# Altium schematic symbol library KongTiaoT.SchLib: 6 symbols
Pins are listed as number, name and electrical type; pins without a type are passive.

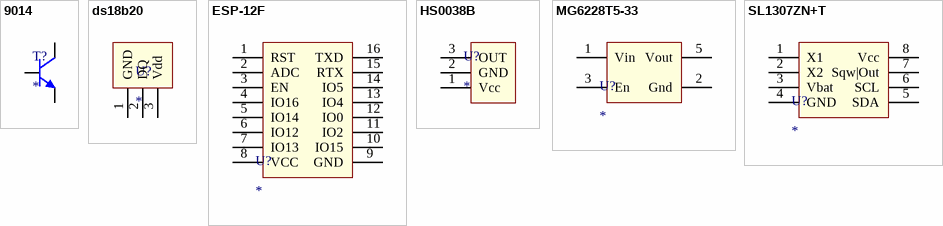
[diagram p0: symbols 9014 to SL1307ZN+T]

## 9014
designator T?
footprint TO-92
pins: 1 E, 2 B, 3 C

## ds18b20
designator U?
footprint TO-92
pins: 1 GND, 2 DQ, 3 Vdd

## ESP-12F
designator U?
footprint ESP-12F-16Pin
pins: 1 RST, 2 ADC, 3 EN, 4 IO16, 5 IO14, 6 IO12, 7 IO13, 8 VCC, 9 GND, 10 IO15, 11 IO2, 12 IO0, 13 IO4, 14 IO5, 15 RTX, 16 TXD

## HS0038B
designator U?
footprint HS0038B
pins: 1 Vcc, 2 GND, 3 OUT

## MG6228T5-33
designator U?
footprint SOT-23-5
pins: 1 Vin, 2 Gnd, 3 En, 5 Vout

## SL1307ZN+T
designator U?
pins: 1 X1, 2 X2, 3 Vbat, 4 GND, 5 SDA, 6 SCL, 7 Sqw|Out, 8 Vcc